# EAGLE library part A6FR-3101 (library SamacSys_Parts)
DIP Switches / SIP Switches 3 Pole Short Actuator (white) Source: Datasheet <https://componentsearchengine.com/Datasheets/2/A6FR-3101.pdf>
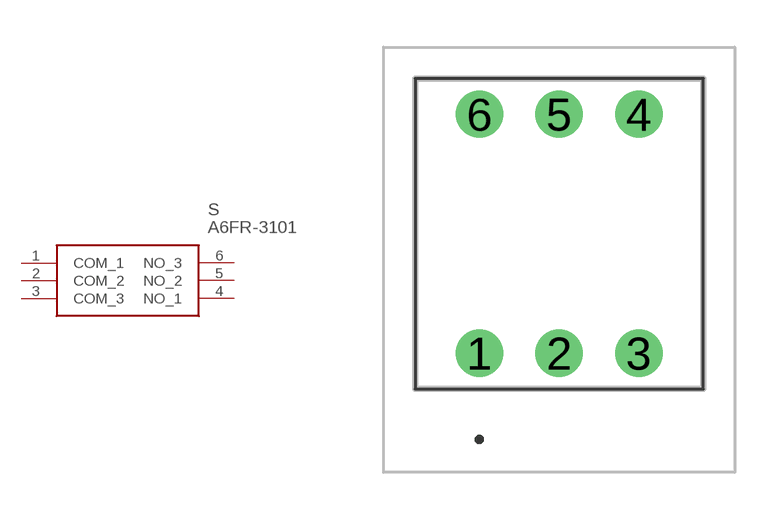
[diagram p1: symbol with the pads of A6FR3101; footprint A6FR3101]

Designator prefix S

## A6FR-3101 (DESCRIPTION: DIP Switches / SIP Switches 3 Pole Short Actuator (white); HEIGHT: 10.2mm; MANUFACTURER_NAME: Omron Electronics; MANUFACTURER_PART_NUMBER: A6FR-3101; MOUSER_PART_NUMBER: 653-A6FR-3101; MOUSER_PRICE-STOCK: https://www.mouser.co.uk/ProductDetail/Omron-Electronics/A6FR-3101?qs=fAHHVMwC%252BbiRkaDbzgIyjA%3D%3D)  [A6FR3101]
1  COM_1
2  COM_2
3  COM_3
4  NO_1
5  NO_2
6  NO_3

## Footprint A6FR3101 (pad centres in mm)
A6FR-3101-3
drill 1 pad 1.5: 1 0,0; 2 2.54,0; 3 5.08,0; 4 5.08,7.62; 5 2.54,7.62; 6 0,7.62